# Altium schematic symbol library PultRE_8C_1.SCHLIB: 26 symbols
Pins are listed as number, name and electrical type; pins without a type are passive.

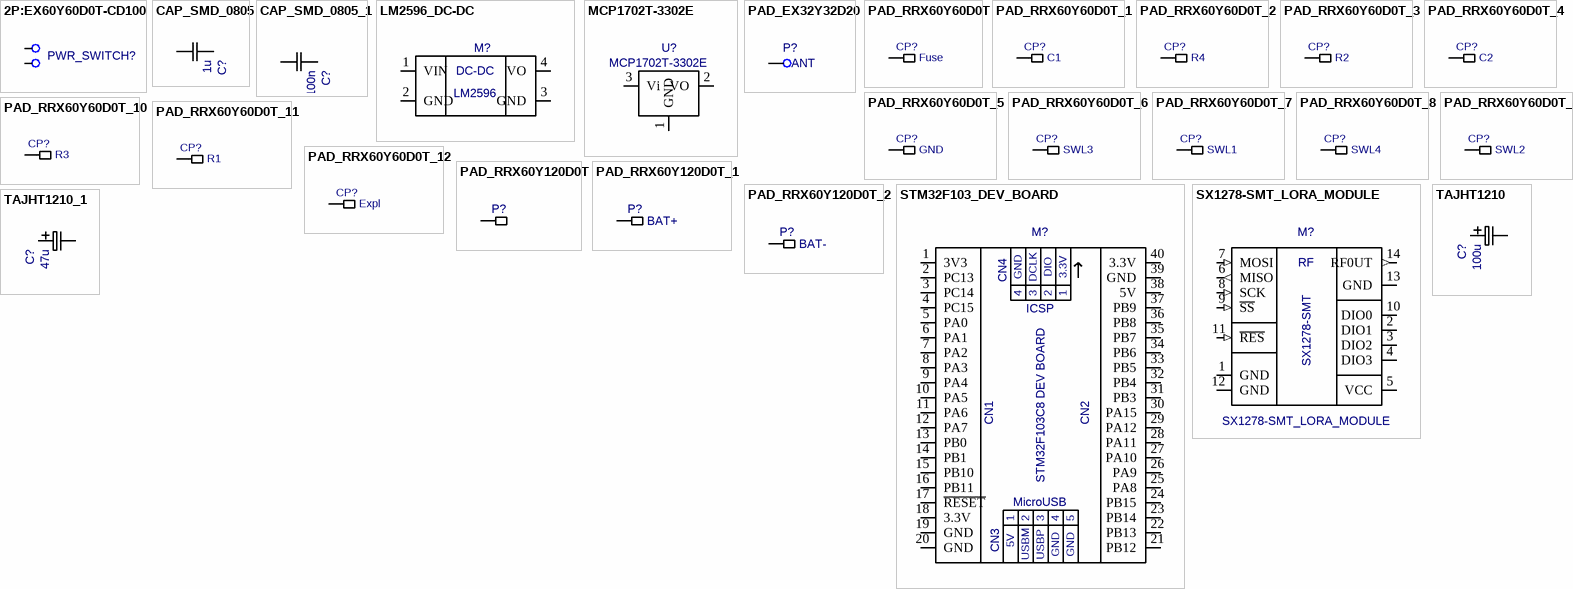
[diagram p0: symbols 2P:EX60Y60D0T-CD100 to TAJHT1210_1]

## 2P:EX60Y60D0T-CD100
designator PWR_SWITCH?  (value not drawn)
Value: *
footprint 2P:EX60Y60D0T-CD100
pins: 1, 2

## CAP_SMD_0805
designator C?  value 1u  (hidden comment: CAP_SMD_0805)
footprint C0805
pins: 1 A, 2 B

## CAP_SMD_0805_1
designator C?, comment value 100n  (hidden comment: CAP_SMD_0805)
footprint C0805
pins: 1 A, 2 B

## LM2596_DC-DC
designator M?  (value not drawn)
Converter DC-DC Module; Value: *
footprint LM2596_DC-DC
pins: 1 VIN, 2 GND, 3 GND, 4 VO
text: DC-DC; LM2596

## MCP1702T-3302E
designator U?
Voltage Stabilizer 3.3V 100mA Iq=2uA; Value: *
footprint SOT23A
pins: 1 GND, 2 VO, 3 Vi

## PAD_EX32Y32D20
designator P?  value ANT  (hidden comment: PAD_EX32Y32D20)
footprint PAD_EX32Y32AD20
pins: 1

## PAD_RRX60Y60D0T
designator CP?  value Fuse  (hidden comment: PAD_RRX60Y60D0T)
footprint PAD_RRX60Y60D0T
pins: 1

## PAD_RRX60Y60D0T_1
designator CP?, comment value C1  (hidden comment: PAD_RRX60Y60D0T)
footprint PAD_RRX60Y60D0T
pins: 1

## PAD_RRX60Y60D0T_2
designator CP?, comment value R4  (hidden comment: PAD_RRX60Y60D0T)
footprint PAD_RRX60Y60D0T
pins: 1

## PAD_RRX60Y60D0T_3
designator CP?, comment value R2  (hidden comment: PAD_RRX60Y60D0T)
footprint PAD_RRX60Y60D0T
pins: 1

## PAD_RRX60Y60D0T_4
designator CP?, comment value C2  (hidden comment: PAD_RRX60Y60D0T)
footprint PAD_RRX60Y60D0T
pins: 1

## PAD_RRX60Y60D0T_5
designator CP?, comment value GND  (hidden comment: PAD_RRX60Y60D0T)
footprint PAD_RRX60Y60D0T
pins: 1

## PAD_RRX60Y60D0T_6
designator CP?, comment value SWL3  (hidden comment: PAD_RRX60Y60D0T)
footprint PAD_RRX60Y60D0T
pins: 1

## PAD_RRX60Y60D0T_7
designator CP?, comment value SWL1  (hidden comment: PAD_RRX60Y60D0T)
footprint PAD_RRX60Y60D0T
pins: 1

## PAD_RRX60Y60D0T_8
designator CP?, comment value SWL4  (hidden comment: PAD_RRX60Y60D0T)
footprint PAD_RRX60Y60D0T
pins: 1

## PAD_RRX60Y60D0T_9
designator CP?, comment value SWL2  (hidden comment: PAD_RRX60Y60D0T)
footprint PAD_RRX60Y60D0T
pins: 1

## PAD_RRX60Y60D0T_10
designator CP?, comment value R3  (hidden comment: PAD_RRX60Y60D0T)
footprint PAD_RRX60Y60D0T
pins: 1

## PAD_RRX60Y60D0T_11
designator CP?, comment value R1  (hidden comment: PAD_RRX60Y60D0T)
footprint PAD_RRX60Y60D0T
pins: 1

## PAD_RRX60Y60D0T_12
designator CP?, comment value Expl  (hidden comment: PAD_RRX60Y60D0T)
footprint PAD_RRX60Y60D0T
pins: 1

## PAD_RRX60Y120D0T
designator P?  (value not drawn)
footprint PAD_RRX60Y120D0T
pins: 1

## PAD_RRX60Y120D0T_1
designator P?, comment value BAT+  (hidden comment: PAD_RRX60Y120D0T)
footprint PAD_RRX60Y120D0T
pins: 1

## PAD_RRX60Y120D0T_2
designator P?, comment value BAT-  (hidden comment: PAD_RRX60Y120D0T)
footprint PAD_RRX60Y120D0T
pins: 1

## STM32F103_DEV_BOARD
designator M?  (value not drawn)
Value: *
footprint STM32F103C8_DEV_BOARD
pins: 1 3V3, 2 PC13, 3 PC14, 4 PC15, 5 PA0, 6 PA1, 7 PA2, 8 PA3, 9 PA4, 10 PA5, 11 PA6, 12 PA7, 13 PB0, 14 PB1, 15 PB10, 16 PB11, 17 ~{RESET}, 18 3.3V, 19 GND, 20 GND, 21 PB12, 22 PB13, 23 PB14, 24 PB15, 25 PA8, 26 PA9, 27 PA10, 28 PA11, 29 PA12, 30 PA15, 31 PB3, 32 PB4, 33 PB5, 34 PB6, 35 PB7, 36 PB8, 37 PB9, 38 5V, 39 GND, 40 3.3V
text: CN4; DCLK; DIO; ICSP; STM32F103C8 DEV BOARD; CN1; CN2; MicroUSB; CN3; USBM; USBP

## SX1278-SMT_LORA_MODULE
designator M?
Radiomodule LoRa. 433MHz 20mW max.; Value: *
footprint SX1278-SMT_MODULE
pins: 1 GND (power), 2 DIO1 (io), 3 DIO2 (io), 4 DIO3 (io), 5 VCC (power), 6 MISO (out), 7 MOSI (in), 8 SCK (in), 9 ~{SS} (in), 10 DIO0 (io), 11 ~{RES} (in), 12 GND (power), 13 GND (power), 14 RF0UT (out)
text: RF; SX1278-SMT

## TAJHT1210
designator C?  value 100u  (hidden comment: TAJHT1210)
footprint TAJHT1210
pins: 1, 2

## TAJHT1210_1
designator C?, comment value 47u  (hidden comment: TAJHT1210)
footprint TAJHT1210
pins: 1, 2